# Altium footprint library SOIC8P127_490X599X200L104X41N.PcbLib: 1 footprints
Each footprint in its own frame and in the unit in brackets; x right, y up, seen from the top. Pads: shape width x height; smd on the part's side, far side on the other; paste and mask are expansions set on the pad; w line width, h text height; cw(c..) or ccw(c..) is an arc to the next point about the centre after c.
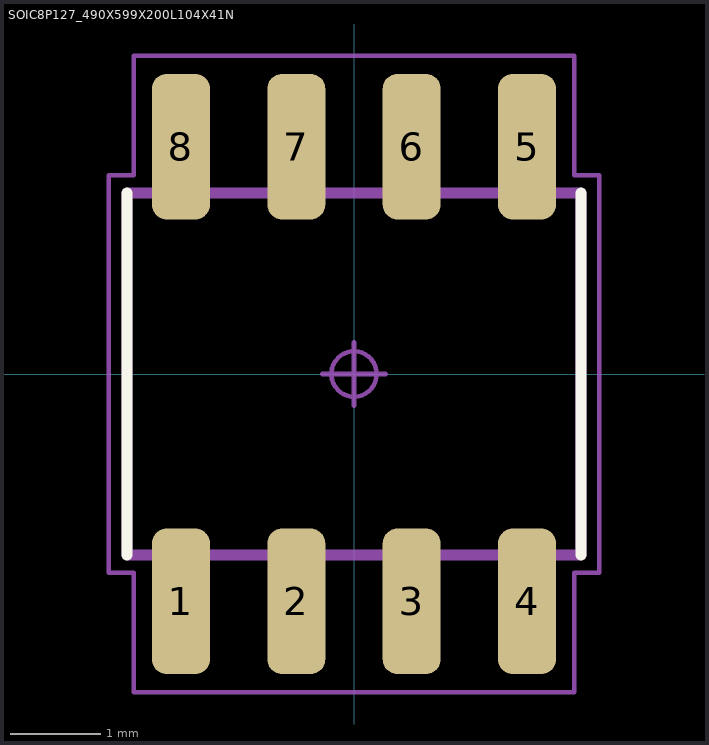
[diagram p0: the footprint, top view; thin cyan lines are the x and y axes]

## SOIC8P127_490X599X200L104X41N [mil] "Small Outline IC (SOIC), 1.27 mm pitch; 8 pin, 4.905 mm L X 3.895 mm W X 2.00 mm H body"
height 78.74
pads (8):
  rrect50% 25.16x63.03 smd: 1(-75,-98.5) 2(-25,-98.5) 3(25,-98.5) 4(75,-98.5) 5(75,98.5) 6(25,98.5) 7(-25,98.5) 8(-75,98.5)
Top Overlay:
  lines w4.72: -98.43,-78.35 -98.43,78.35 ; 98.43,-78.35 98.43,78.35
Mechanical 3:
  lines w4.72: -98.43,-78.35 98.43,-78.35 98.43,78.35 -98.43,78.35 -98.43,-78.35
Mechanical 5:
  lines w0.98: -83.07,-118.03 -83.07,-77.09 -66.93,-77.09 -66.93,-118.03 -83.07,-118.03 ; -83.07,77.09 -83.07,118.03 -66.93,118.03 -66.93,77.09 -83.07,77.09 ; -33.07,-118.03 -33.07,-77.09 -16.93,-77.09 -16.93,-118.03 -33.07,-118.03 ; -33.07,77.09 -33.07,118.03 -16.93,118.03 -16.93,77.09 -33.07,77.09 ; 16.93,-118.03 16.93,-77.09 33.07,-77.09 33.07,-118.03 16.93,-118.03 ; 16.93,77.09 16.93,118.03 33.07,118.03 33.07,77.09 16.93,77.09 ; 66.93,-118.03 66.93,-77.09 83.07,-77.09 83.07,-118.03 66.93,-118.03 ; 66.93,77.09 66.93,118.03 83.07,118.03 83.07,77.09 66.93,77.09
Mechanical 7:
  circle w1.97: c0,0 r9.84
  lines w0.98: -96.56,-76.67 96.56,-76.67 96.56,76.67 -96.56,76.67 -96.56,-76.67
  lines w1.97: -13.78,0 13.78,0 ; 0,-13.78 0,13.78 ; -106.3,-86.22 -95.43,-86.22 -95.43,-137.87 95.43,-137.87 95.43,-86.22 106.3,-86.22 106.3,86.22 95.43,86.22 95.43,137.87 -95.43,137.87 -95.43,86.22 -106.3,86.22 -106.3,-86.22
3D body "SOIC8P127_490X599X200L104X41.STEP": height 78.74, standoff 0, extent -96.56,-118.01 96.56,118.01